# Altium integrated library lib_f407.IntLib: 21 symbols
Pins are listed as number, name and electrical type; pins without a type are passive.

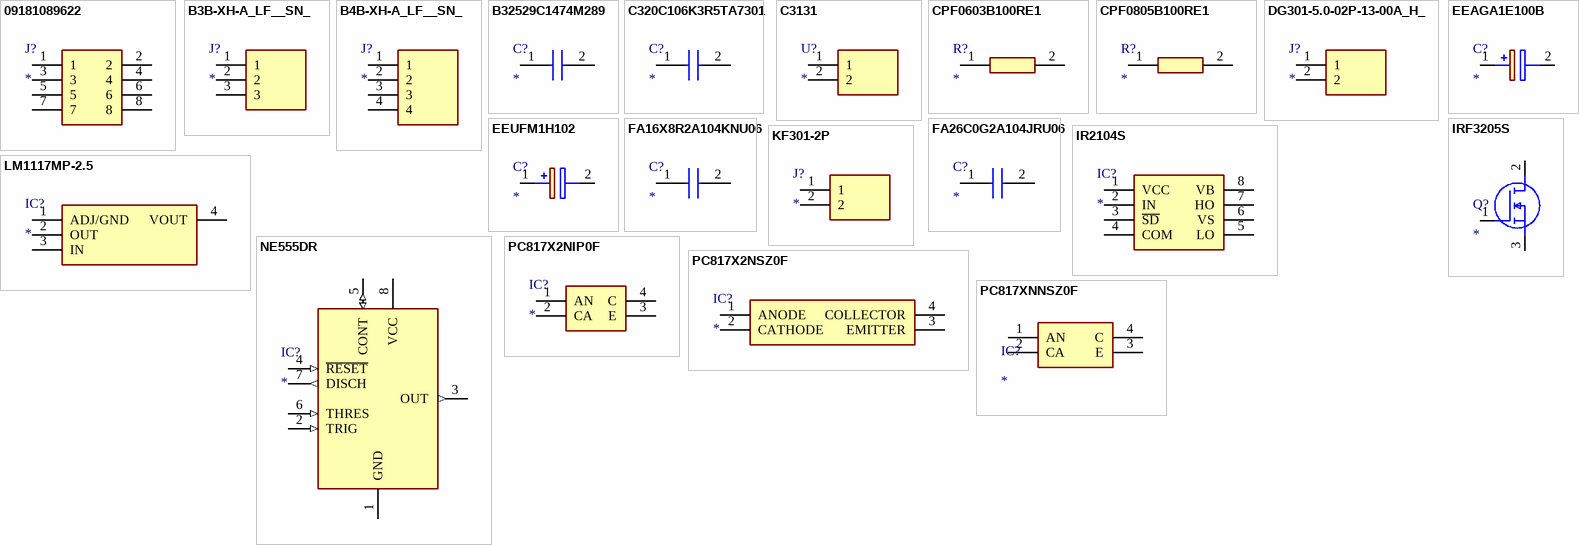
[diagram p0: symbols 09181089622 to PC817XNNSZ0F]

## 09181089622
designator J?
Connector; Manufacturer_Name: HARTING; Manufacturer_Part_Number: 09181089622; Datasheet Link: http://uk.rs-online.com/web/p/products/6935182; Height: 5.5mm; Mouser Part Number: 617-09181089622; Mouser Price/Stock: https://www.mouser.co.uk/ProductDetail/HARTING/09181089622?qs=FeiuqfHlVTv2CjJEejdN9Q%3D%3D
footprint 09181089622
pins: 1, 2, 3, 4, 5, 6, 7, 8

## B3B-XH-A_LF__SN_
designator J?
Connector; Manufacturer_Name: JST (JAPAN SOLDERLESS TERMINALS); Manufacturer_Part_Number: B3B-XH-A(LF)(SN); Datasheet Link: https://datasheet.lcsc.com/szlcsc/1812131720_JST-Sales-America-B3B-XH-A-LF-SN_C144394.pdf; Height: 7mm; Arrow Part Number: B3B-XH-A(LF)(SN); Arrow Price/Stock: https://www.arrow.com/en/products/b3b-xh-a-lf-sn/jst-manufacturing?region=europe
footprint B3BXHALFSN
pins: 1, 2, 3

## B4B-XH-A_LF__SN_
designator J?
Connector; Manufacturer_Name: JST (JAPAN SOLDERLESS TERMINALS); Manufacturer_Part_Number: B4B-XH-A(LF)(SN); Datasheet Link: http://uk.rs-online.com/web/p/products/8201551; Height: 7mm
footprint SHDR4W64P0X250_1X4_1240X575X700P
pins: 1, 2, 3, 4

## B32529C1474M289
designator C?
Capacitor; Manufacturer_Name: TDK; Manufacturer_Part_Number: B32529C1474M289; Datasheet Link: https://product.tdk.com/system/files/dam/doc/product/capacitor/film/mkt/data_sheet/20/20/db/fc_2009/b32520_529.pdf; Height: 9.5mm
footprint B32529C1474M189
pins: 1, 2

## C320C106K3R5TA7301
designator C?
Capacitor; Manufacturer_Name: Kemet; Manufacturer_Part_Number: C320C106K3R5TA7301; Datasheet Link: https://api.kemet.com/component-edge/download/datasheet/C320C106K3R5TA7301.pdf; Height: 5.84mm; Mouser Part Number: 80-C320C106K3R5TATR; Mouser Price/Stock: https://www.mouser.co.uk/ProductDetail/KEMET/C320C106K3R5TA7301?qs=DPoM0jnrROXiyzEkmAyhqw%3D%3D
footprint C320C106K3R5TA7301
pins: 1, 2

## C3131
designator U?
Undefined or Miscellaneous; Manufacturer_Name: Xucheng Elec; Manufacturer_Part_Number: C3131; Datasheet Link: https://datasheet.lcsc.com/szlcsc/XC-Elec-Shenzhen-5x20-BLX-Fuse-holder_C3131.pdf; Height: 10.5mm
footprint C3131
pins: 1, 2

## CPF0603B100RE1
designator R?
Resistor; Manufacturer_Name: TE Connectivity; Manufacturer_Part_Number: CPF0603B100RE1; Description: TE CONNECTIVITY / NEOHM - CPF0603B100RE1 - RES; Datasheet Link: http://www.farnell.com/datasheets/1786775.pdf; Height: 0.55mm; Mouser Part Number: 279-CPF0603B100RE1; Mouser Price/Stock: https://www.mouser.co.uk/ProductDetail/TE-Connectivity-Neohm/CPF0603B100RE1?qs=DfH2yQaBz6s2KWheq2AlNw%3D%3D; Arrow Part Number: CPF0603B100RE1; Arrow Price/Stock: https://www.arrow.com/en/products/cpf0603b100re1/te-connectivity
footprint RESC1608X55N
pins: 1, 2

## CPF0805B100RE1
designator R?
Resistor; Manufacturer_Name: TE Connectivity; Manufacturer_Part_Number: CPF0805B100RE1; Datasheet Link: https://datasheet.datasheetarchive.com/originals/distributors/DKDS-21/401696.pdf; Height: 0.65mm; Mouser Part Number: 279-CPF0805B100RE1; Mouser Price/Stock: https://www.mouser.co.uk/ProductDetail/TE-Connectivity-Holsworthy/CPF0805B100RE1?qs=9ylKvqdyudkCWLPT1QvLZQ%3D%3D; Arrow Part Number: CPF0805B100RE1; Arrow Price/Stock: https://www.arrow.com/en/products/cpf0805b100re1/te-connectivity?region=nac
footprint RESC2012X65N
pins: 1, 2

## DG301-5.0-02P-13-00A_H_
designator J?
Connector; Manufacturer_Name: Degson; Manufacturer_Part_Number: DG301-5.0-02P-13-00A(H); Height: 10.2mm
footprint DG3015002P1300AH
pins: 1, 2

## EEAGA1E100B
designator C?
Capacitor Polarised; Manufacturer_Name: Panasonic; Manufacturer_Part_Number: EEAGA1E100B; Datasheet Link: http://industrial.panasonic.com/cdbs/www-data/pdf/RDF0000/ABA0000C1041.pdf; Height: 8mm; Arrow Part Number: EEAGA1E100B; Arrow Price/Stock: https://www.arrow.com/en/products/eea-ga1e100b/panasonic
footprint CAPPRD150W50D400H800
pins: 1 +, 2 -

## EEUFM1H102
designator C?
Capacitor Polarised; Manufacturer_Name: Panasonic; Manufacturer_Part_Number: EEUFM1H102; Datasheet Link: http://industrial.panasonic.com/cdbs/www-data/pdf/RDF0000/ABA0000C1018.pdf
footprint EEUFM1H102
pins: 1 +, 2 -

## FA16X8R2A104KNU06
designator C?
Capacitor; Manufacturer_Name: TDK; Manufacturer_Part_Number: FA16X8R2A104KNU06; Datasheet Link: https://product.tdk.com/system/files/dam/doc/product/capacitor/ceramic/lead-mlcc/catalog/leadmlcc_halogenfree_fa_en.pdf; Height: 5.5mm; Mouser Part Number: 810-FA16X8R2A104KNU6; Mouser Price/Stock: https://www.mouser.co.uk/ProductDetail/TDK/FA16X8R2A104KNU06/?qs=UrFqKgNWc7S4480xlEvKbQ%3D%3D
footprint FA16
pins: 1, 2

## FA26C0G2A104JRU06
designator C?
Capacitor; Manufacturer_Name: TDK; Manufacturer_Part_Number: FA26C0G2A104JRU06; Datasheet Link: https://componentsearchengine.com/Datasheets/1/FA26C0G2A104JRU06.pdf; Height: 6mm; Mouser Part Number: 810-FA26C0G2A104JRU6; Mouser Price/Stock: https://www.mouser.co.uk/ProductDetail/TDK/FA26C0G2A104JRU06?qs=rrS6PyfT74cTUsU8qtT1pQ%3D%3D; Arrow Part Number: FA26C0G2A104JRU06; Arrow Price/Stock: https://www.arrow.com/en/products/fa26c0g2a104jru06/tdk
footprint FA26NP02E223JNU06
pins: 1, 2

## IR2104S
designator IC?
Integrated Circuit; Manufacturer_Name: Infineon; Manufacturer_Part_Number: IR2104S; Datasheet Link: http://www.infineon.com/dgdl/ir2104.pdf?fileId=5546d462533600a4015355c7c1c31671; Height: 1.75mm
footprint SOIC127P600X175-8N
pins: 1 VCC, 2 IN, 3 ~{SD}, 4 COM, 5 LO, 6 VS, 7 HO, 8 VB

## IRF3205S
designator Q?
MOSFET (N-Channel); Manufacturer_Name: Infineon; Manufacturer_Part_Number: IRF3205S; Datasheet Link: http://www.irf.com/product-info/datasheets/data/irf3205.pdf; Height: 4.69mm
footprint TO254P469X1042X1930-3P
pins: 1 G, 2 D, 3 S

## KF301-2P
designator J?
Connector; Manufacturer_Name: Handson Technology; Manufacturer_Part_Number: KF301-2P; Datasheet Link: http://www.handsontec.com/dataspecs/terminal%20block-5mm.pdf; Height: 10mm
footprint KF3012P
pins: 1, 2

## LM1117MP-2.5
designator IC?
Integrated Circuit; Manufacturer_Name: Texas Instruments; Manufacturer_Part_Number: LM1117MP-2.5; Mouser Part Number: 926-LM1117MP-25; Mouser Price/Stock: https://www.mouser.com/Search/Refine.aspx?Keyword=926-LM1117MP-25
footprint SOT230P696X180-4N
pins: 1 ADJ/GND, 2 OUT, 3 IN, 4 VOUT

## NE555DR
designator IC?
Integrated Circuit; Manufacturer_Name: Texas Instruments; Manufacturer_Part_Number: NE555DR; Datasheet Link: http://www.ti.com/lit/ds/symlink/ne555.pdf; Height: 1.75mm; Mouser Part Number: 595-NE555DR; Mouser Price/Stock: https://www.mouser.com/Search/Refine.aspx?Keyword=595-NE555DR; RS Part Number: 1218414; RS Price/Stock: http://uk.rs-online.com/web/p/products/1218414
footprint SOIC127P600X175-8N
pins: 1 GND (power), 2 TRIG (in), 3 OUT (out), 4 ~{RESET} (in), 5 CONT (io), 6 THRES (in), 7 DISCH (out), 8 VCC (power)

## PC817X2NIP0F
designator IC?
Integrated Circuit; Manufacturer_Name: Sharp Microelectronics; Manufacturer_Part_Number: PC817X2NIP0F; Datasheet Link: https://ew.componentsearchengine.com/Datasheets/2/PC817X2NIP0F.pdf; Height: 4.6mm; Mouser Part Number: N/A; Mouser Price/Stock: https://www.mouser.co.uk/ProductDetail/Sharp-Microelectronics/PC817X2NIP0F?qs=je7EQiYm86lhc4x%252BMeaZDQ%3D%3D
footprint SOP254P975X460-4N
pins: 1 AN, 2 CA, 3 E, 4 C

## PC817X2NSZ0F
designator IC?
Integrated Circuit; Manufacturer_Name: Sharp Microelectronics; Manufacturer_Part_Number: PC817X2NSZ0F; Datasheet Link: https://datasheet.datasheetarchive.com/originals/distributors/Datasheets_SAMA/458e45842a103a05998fcebbd6f7366e.pdf; Height: 4mm; Mouser Part Number: N/A; Mouser Price/Stock: https://www.mouser.co.uk/ProductDetail/Sharp-Microelectronics/PC817X2NSZ0F?qs=6kT3pPPHxnU7uYWM8Yy85A%3D%3D
footprint DIP762W60P254L458H400Q4N
pins: 1 ANODE, 2 CATHODE, 3 EMITTER, 4 COLLECTOR

## PC817XNNSZ0F
designator IC?
Integrated Circuit; Manufacturer_Name: Sharp Microelectronics; Manufacturer_Part_Number: PC817XNNSZ0F; Datasheet Link: https://datasheet.datasheetarchive.com/originals/distributors/Datasheets-DGA15/791143.pdf; Height: 4.5mm; Mouser Part Number: 852-PC817XNNSZ0F; Mouser Price/Stock: https://www.mouser.co.uk/ProductDetail/Sharp-Microelectronics/PC817XNNSZ0F?qs=2FIyTMJ0hNm%2FyiG5z85dhQ%3D%3D
footprint DIP762W60P254L458H450Q4N
pins: 1 AN, 2 CA, 3 E, 4 C